# Altium footprint library TPS62827DMQR.PcbLib: 1 footprints
Each footprint in its own frame and in the unit in brackets; x right, y up, seen from the top. Pads: shape width x height; smd on the part's side, far side on the other; paste and mask are expansions set on the pad; w line width, h text height; cw(c..) or ccw(c..) is an arc to the next point about the centre after c.
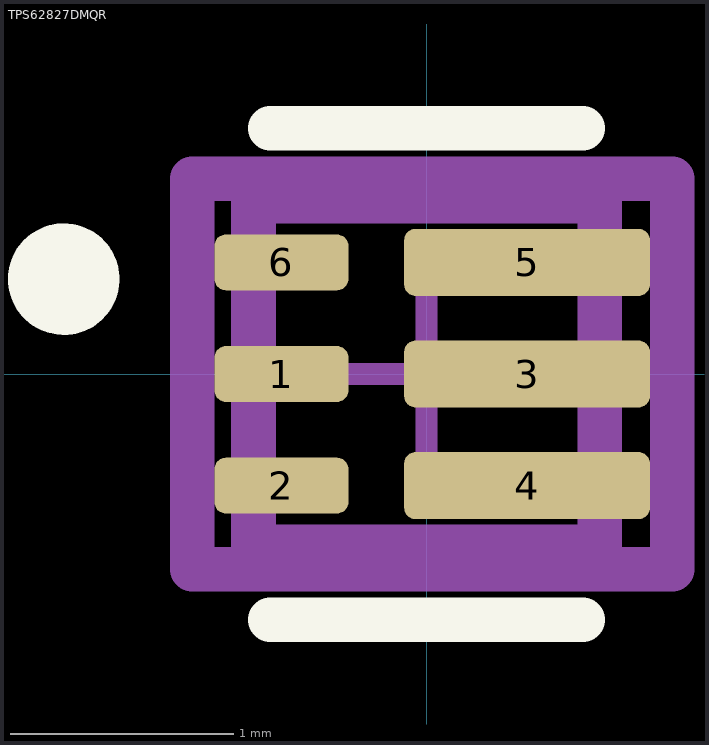
[diagram p0: the footprint, top view; thin cyan lines are the x and y axes]

## TPS62827DMQR [mm]
pads (6):
  rrect40% 0.6x0.25 smd paste+0 mask-1000: 1(-0.65,0) 2(-0.65,-0.5) 6(-0.65,0.5)
  rrect33% 1.1x0.3 smd paste-1000 mask-1000: 3(0.45,0) 4(0.45,-0.5) 5(0.45,0.5)
Top Overlay:
  circle w0.25: c-1.625,0.425 r0.125
  lines w0.2: -0.7,-1.1 0.7,-1.1 ; -0.7,1.1 0.7,1.1
Top Paste:
  region: 0.1,0.45 0.1,0.55 0.1,0.56 0.108,0.578 0.122,0.592 0.14,0.6 0.15,0.6 0.9,0.6 0.91,0.6 0.928,0.592 0.942,0.578 0.95,0.56 0.95,0.55 0.95,0.45 0.95,0.44 0.942,0.422 0.928,0.408 0.91,0.4 0.9,0.4 0.15,0.4 0.14,0.4 0.122,0.408 0.108,0.422 0.1,0.44
  region: 0.95,0.05 0.95,-0.05 0.95,-0.06 0.942,-0.078 0.928,-0.092 0.91,-0.1 0.9,-0.1 0.15,-0.1 0.14,-0.1 0.122,-0.092 0.108,-0.078 0.1,-0.06 0.1,-0.05 0.1,0.05 0.1,0.06 0.108,0.078 0.122,0.092 0.14,0.1 0.15,0.1 0.9,0.1 0.91,0.1 0.928,0.092 0.942,0.078 0.95,0.06
  region: 0.9,-0.4 0.91,-0.4 0.928,-0.408 0.942,-0.422 0.95,-0.44 0.95,-0.45 0.95,-0.55 0.95,-0.56 0.942,-0.578 0.928,-0.592 0.91,-0.6 0.9,-0.6 0.15,-0.6 0.14,-0.6 0.122,-0.592 0.108,-0.578 0.1,-0.56 0.1,-0.55 0.1,-0.45 0.1,-0.44 0.108,-0.422 0.122,-0.408 0.14,-0.4 0.15,-0.4
Top Solder:
  drawing of 6 lines, arcs and shapes, not listed
Mechanical 10:
  lines w0.2: -1.05,-0.875 -1.05,0.875 1.1,0.875 1.1,-0.875 -1.05,-0.875
  text ".Designator" at 0.025,0.188 h1
Mechanical 12:
  lines w0.2: -0.775,-0.775 -0.775,0.775 0.775,0.775 0.775,-0.775 -0.775,-0.775
Mechanical 15:
  lines w0.1: -0.5,0 0.5,0 ; 0,-0.5 0,0.5
  lines w0.2: -1.05,-0.875 -1.05,0.875 1.1,0.875 1.1,-0.875 -1.05,-0.875
3D body "IC_Texas_Instruments_TPS62827DMQR_eec.STEP": height 0.25, standoff 0, extent -1.05,-0.875 1.1,0.875